# Altium footprint library memory.PCBLIB: 26 footprints (part 1 of 2)
Each footprint in its own frame and in the unit in brackets; x right, y up, seen from the top. Pads: shape width x height; smd on the part's side, far side on the other; paste and mask are expansions set on the pad; w line width, h text height; cw(c..) or ccw(c..) is an arc to the next point about the centre after c.
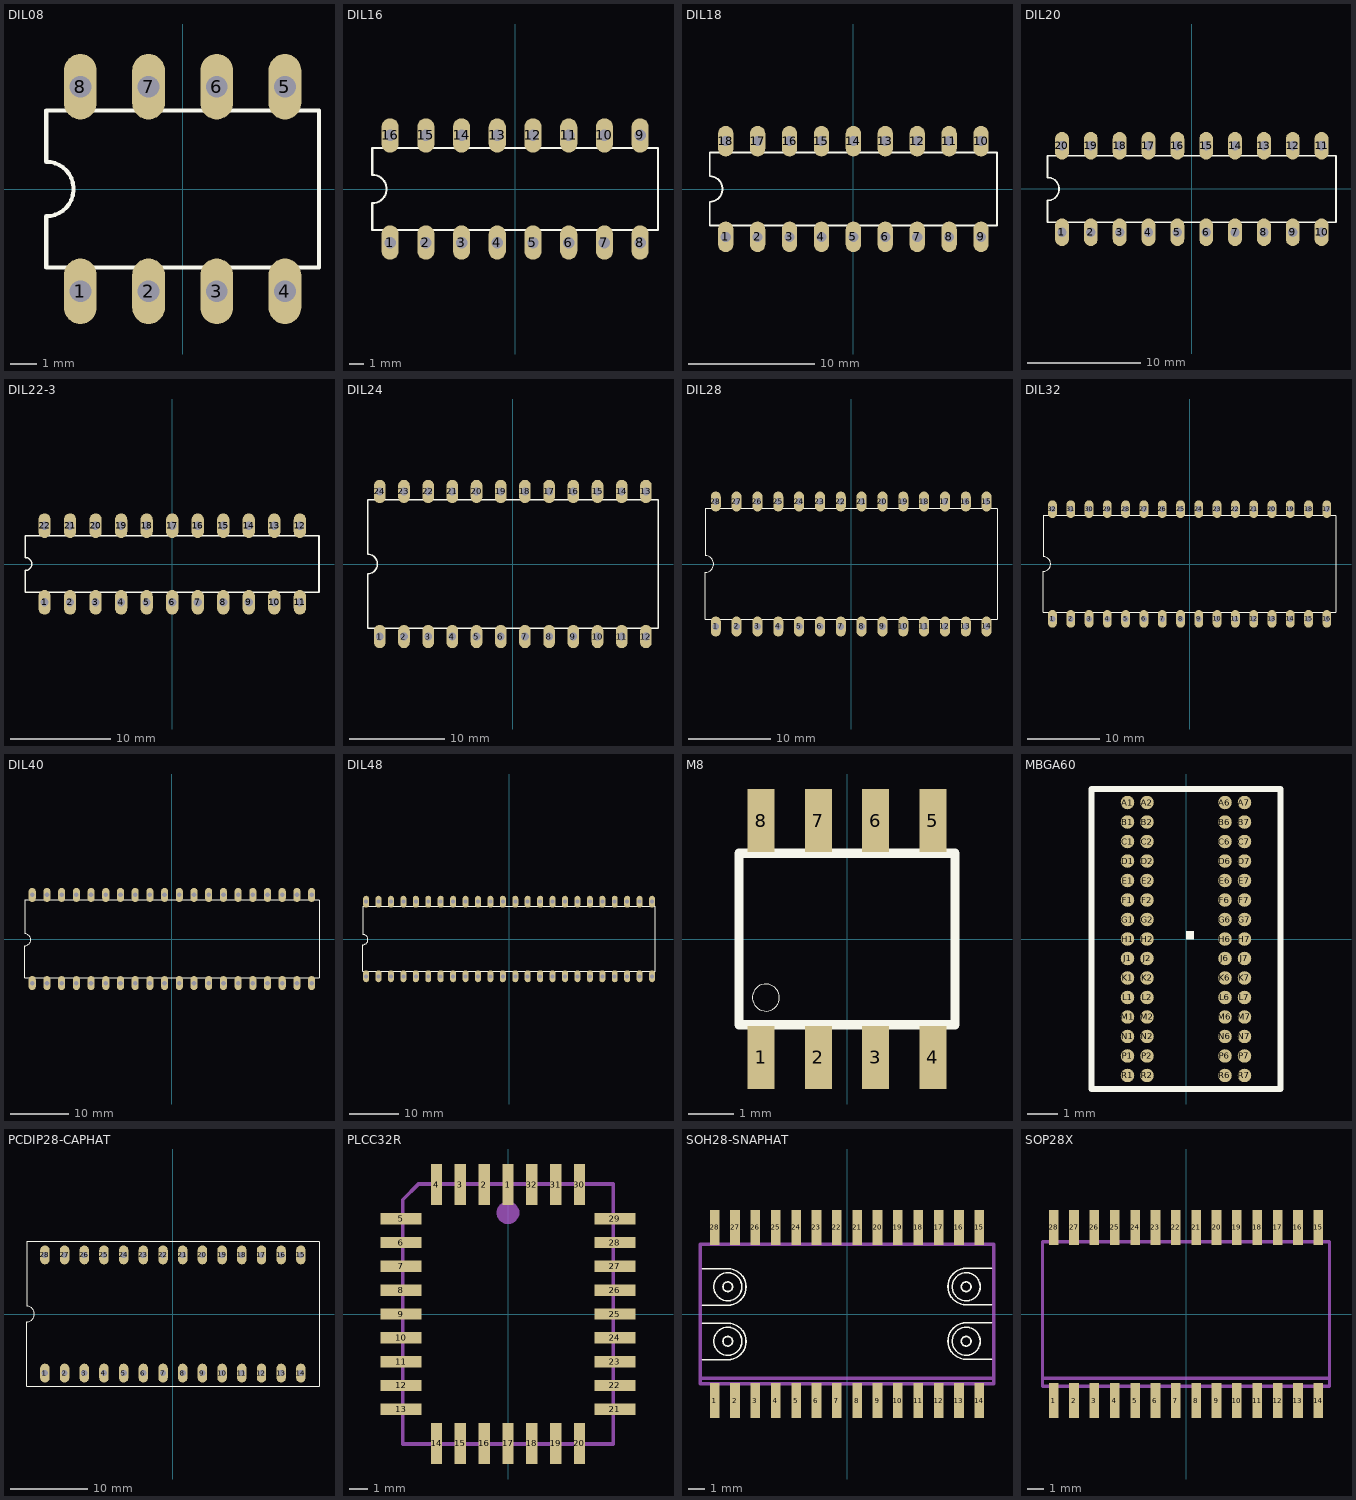
[diagram p0: the footprints below, top view; thin cyan lines are the x and y axes]

## DIL08 [mil]
pads (8):
  oval 48x96 hole 32: 1(-150,-150) 2(-50,-150) 3(50,-150) 4(150,-150) 5(150,150) 6(50,150) 7(-50,150) 8(-150,150)
Top Overlay:
  lines w6: -200,-115 200,-115 200,115 -200,115 -200,40 cw(c-200,0) -200,-40 -200,-115

## DIL16 [mil]
pads (16):
  oval 48x96 hole 32: 1(-350,-150) 2(-250,-150) 3(-150,-150) 4(-50,-150) 5(50,-150) 6(150,-150) 7(250,-150) 8(350,-150) 9(350,150) 10(250,150) 11(150,150) 12(50,150) 13(-50,150) 14(-150,150) 15(-250,150) 16(-350,150)
Top Overlay:
  lines w6: -400,-115 400,-115 400,115 -400,115 -400,40 cw(c-400,0) -400,-40 -400,-115

## DIL18 [mil]
pads (18):
  oval 48x96 hole 32: 1(-400,-150) 2(-300,-150) 3(-200,-150) 4(-100,-150) 5(0,-150) 6(100,-150) 7(200,-150) 8(300,-150) 9(400,-150) 10(400,150) 11(300,150) 12(200,150) 13(100,150) 14(0,150) 15(-100,150) 16(-200,150) 17(-300,150) 18(-400,150)
Top Overlay:
  lines w6: -450,-115 450,-115 450,115 -450,115 -450,40 cw(c-450,0) -450,-40 -450,-115

## DIL20 [mil]
pads (20):
  oval 48x96 hole 32: 1(-450,-150) 2(-350,-150) 3(-250,-150) 4(-150,-150) 5(-50,-150) 6(50,-150) 7(150,-150) 8(250,-150) 9(350,-150) 10(450,-150) 11(450,150) 12(350,150) 13(250,150) 14(150,150) 15(50,150) 16(-50,150) 17(-150,150) 18(-250,150) 19(-350,150) 20(-450,150)
Top Overlay:
  lines w6: -500,-115 500,-115 500,115 -500,115 -500,40 cw(c-500,0) -500,-40 -500,-115

## DIL22-3 [mil]
pads (22):
  oval 48x96 hole 32: 1(-500,-150) 2(-400,-150) 3(-300,-150) 4(-200,-150) 5(-100,-150) 6(0,-150) 7(100,-150) 8(200,-150) 9(300,-150) 10(400,-150) 11(500,-150) 12(500,150) 13(400,150) 14(300,150) 15(200,150) 16(100,150) 17(0,150) 18(-100,150) 19(-200,150) 20(-300,150) 21(-400,150) 22(-500,150)
Top Overlay:
  lines w6: -575,-110 -575,-25 ccw(c-575,0) -575,25 -575,110 575,110 575,-110 -575,-110

## DIL24 [mil]
pads (24):
  oval 48x96 hole 32: 1(-550,-300) 2(-450,-300) 3(-350,-300) 4(-250,-300) 5(-150,-300) 6(-50,-300) 7(50,-300) 8(150,-300) 9(250,-300) 10(350,-300) 11(450,-300) 12(550,-300) 13(550,300) 14(450,300) 15(350,300) 16(250,300) 17(150,300) 18(50,300) 19(-50,300) 20(-150,300) 21(-250,300) 22(-350,300) 23(-450,300) 24(-550,300)
Top Overlay:
  lines w6: -600,-265 -600,-40 ccw(c-600,0) -600,40 -600,265 600,265 600,-265 -600,-265

## DIL28 [mil]
pads (28):
  oval 48x96 hole 32: 1(-650,-300) 2(-550,-300) 3(-450,-300) 4(-350,-300) 5(-250,-300) 6(-150,-300) 7(-50,-300) 8(50,-300) 9(150,-300) 10(250,-300) 11(350,-300) 12(450,-300) 13(550,-300) 14(650,-300) 15(650,300) 16(550,300) 17(450,300) 18(350,300) 19(250,300) 20(150,300) 21(50,300) 22(-50,300) 23(-150,300) 24(-250,300) 25(-350,300) 26(-450,300) 27(-550,300) 28(-650,300)
Top Overlay:
  lines w6: -700,-265 700,-265 700,265 -700,265 -700,40 cw(c-700,0) -700,-40 -700,-265

## DIL32 [mil]
pads (32):
  oval 48x96 hole 32: 1(-750,-300) 2(-650,-300) 3(-550,-300) 4(-450,-300) 5(-350,-300) 6(-250,-300) 7(-150,-300) 8(-50,-300) 9(50,-300) 10(150,-300) 11(250,-300) 12(350,-300) 13(450,-300) 14(550,-300) 15(650,-300) 16(750,-300) 17(750,300) 18(650,300) 19(550,300) 20(450,300) 21(350,300) 22(250,300) 23(150,300) 24(50,300) 25(-50,300) 26(-150,300) 27(-250,300) 28(-350,300) 29(-450,300) 30(-550,300) 31(-650,300) 32(-750,300)
Top Overlay:
  lines w6: -800,-265 800,-265 800,265 -800,265 -800,40 cw(c-800,0) -800,-40 -800,-265

## DIL40 [mil]
pads (40):
  oval 48x96 hole 32: 1(-950,-300) 2(-850,-300) 3(-750,-300) 4(-650,-300) 5(-550,-300) 6(-450,-300) 7(-350,-300) 8(-250,-300) 9(-150,-300) 10(-50,-300) 11(50,-300) 12(150,-300) 13(250,-300) 14(350,-300) 15(450,-300) 16(550,-300) 17(650,-300) 18(750,-300) 19(850,-300) 20(950,-300) 21(950,300) 22(850,300) 23(750,300) 24(650,300) 25(550,300) 26(450,300) 27(350,300) 28(250,300) 29(150,300) 30(50,300) 31(-50,300) 32(-150,300) 33(-250,300) 34(-350,300) 35(-450,300) 36(-550,300) 37(-650,300) 38(-750,300) 39(-850,300) 40(-950,300)
Top Overlay:
  lines w6: -1000,-265 1000,-265 1000,265 -1000,265 -1000,35 cw(c-1000,-5) -1000,-45 -1000,-265

## DIL48 [mil]
pads (48):
  oval 48x96 hole 32: 1(-1150,-300) 2(-1050,-300) 3(-950,-300) 4(-850,-300) 5(-750,-300) 6(-650,-300) 7(-550,-300) 8(-450,-300) 9(-350,-300) 10(-250,-300) 11(-150,-300) 12(-50,-300) 13(50,-300) 14(150,-300) 15(250,-300) 16(350,-300) 17(450,-300) 18(550,-300) 19(650,-300) 20(750,-300) 21(850,-300) 22(950,-300) 23(1050,-300) 24(1150,-300) 25(1150,300) 26(1050,300) 27(950,300) 28(850,300) 29(750,300) 30(650,300) 31(550,300) 32(450,300) 33(350,300) 34(250,300) 35(150,300) 36(50,300) 37(-50,300) 38(-150,300) 39(-250,300) 40(-350,300) 41(-450,300) 42(-550,300) 43(-650,300) 44(-750,300) 45(-850,300) 46(-950,300) 47(-1050,300) 48(-1150,300)
Top Overlay:
  lines w6: -1175,-260 1175,-260 1175,260 -1175,260 -1175,35 cw(c-1175,-5) -1175,-45 -1175,-260

## M8 [mil]
pads (8):
  rect 23.62x55.12 smd: 1(-75,-103.54) 2(-25,-103.54) 3(25,-103.54) 4(75,-103.54) 5(75,103.54) 6(25,103.54) 7(-25,103.54) 8(-75,103.54)
Top Overlay:
  circle w0: c-70.87,-51.18 r11.81
  lines w8: -94.49,-75 94.49,-75 94.49,75 -94.49,75 -94.49,-75
Mechanical 13:
  text "SO8 Medium" at -75,-50 h18.6
  text "Microchip" at -75,-25 h18.6
Mechanical 16:
  rectangle: -84.65,-122.05 -65.35,-78.74
  rectangle: -34.65,-122.05 -15.35,-78.74
  rectangle: 15.35,-122.05 34.65,-78.74
  rectangle: 65.35,-122.05 84.65,-78.74
  rectangle: 65.35,78.74 84.65,122.05
  rectangle: 15.35,78.74 34.65,122.05
  rectangle: -34.65,78.74 -15.35,122.05
  rectangle: -84.65,78.74 -65.35,122.05

## MBGA60 [mm]
pads (60):
  rrect100% 0.45x0.45 smd: A1(-1.95,4.55) A2(-1.3,4.55) A6(1.3,4.55) A7(1.95,4.55) B1(-1.95,3.9) B2(-1.3,3.9) B6(1.3,3.9) B7(1.95,3.9) C1(-1.95,3.25) C2(-1.3,3.25) C6(1.3,3.25) C7(1.95,3.25) D1(-1.95,2.6) D2(-1.3,2.6) D6(1.3,2.6) D7(1.95,2.6) E1(-1.95,1.95) E2(-1.3,1.95) E6(1.3,1.95) E7(1.95,1.95) F1(-1.95,1.3) F2(-1.3,1.3) F6(1.3,1.3) F7(1.95,1.3) G1(-1.95,0.65) G2(-1.3,0.65) G6(1.3,0.65) G7(1.95,0.65) H1(-1.95,0) H2(-1.3,0) H6(1.3,0) H7(1.95,0) J1(-1.95,-0.65) J2(-1.3,-0.65) J6(1.3,-0.65) J7(1.95,-0.65) K1(-1.95,-1.3) K2(-1.3,-1.3) K6(1.3,-1.3) K7(1.95,-1.3) L1(-1.95,-1.95) L2(-1.3,-1.95) L6(1.3,-1.95) L7(1.95,-1.95) M1(-1.95,-2.6) M2(-1.3,-2.6) M6(1.3,-2.6) M7(1.95,-2.6) N1(-1.95,-3.25) N2(-1.3,-3.25) N6(1.3,-3.25) N7(1.95,-3.25) P1(-1.95,-3.9) P2(-1.3,-3.9) P6(1.3,-3.9) P7(1.95,-3.9) R1(-1.95,-4.55) R2(-1.3,-4.55) R6(1.3,-4.55) R7(1.95,-4.55)
Top Overlay:
  region: 0,0 0.254,0 0.254,0.254 0,0.254
  lines w0.203: -3.15,-5 3.15,-5 3.15,5 -3.15,5 -3.15,-5
Top Solder:
  circle w0: c-1.95,4.55 r0.2
  circle w0: c-1.95,3.9 r0.2
  circle w0: c-1.95,3.25 r0.2
  circle w0: c-1.95,2.6 r0.2
  circle w0: c-1.95,1.95 r0.2
  circle w0: c-1.95,1.3 r0.2
  circle w0: c-1.95,0.65 r0.2
  circle w0: c-1.95,0 r0.2
  circle w0: c-1.95,-0.65 r0.2
  circle w0: c-1.95,-1.3 r0.2
  circle w0: c-1.95,-1.95 r0.2
  circle w0: c-1.95,-2.6 r0.2
  circle w0: c-1.95,-3.25 r0.2
  circle w0: c-1.95,-3.9 r0.2
  circle w0: c-1.95,-4.55 r0.2
  circle w0: c-1.3,4.55 r0.2
  circle w0: c-1.3,3.9 r0.2
  circle w0: c-1.3,3.25 r0.2
  circle w0: c-1.3,2.6 r0.2
  circle w0: c-1.3,1.95 r0.2
  circle w0: c-1.3,1.3 r0.2
  circle w0: c-1.3,0.65 r0.2
  circle w0: c-1.3,0 r0.2
  circle w0: c-1.3,-0.65 r0.2
  circle w0: c-1.3,-1.3 r0.2
  circle w0: c-1.3,-1.95 r0.2
  circle w0: c-1.3,-2.6 r0.2
  circle w0: c-1.3,-3.25 r0.2
  circle w0: c-1.3,-3.9 r0.2
  circle w0: c-1.3,-4.55 r0.2
  circle w0: c1.3,4.55 r0.2
  circle w0: c1.3,3.9 r0.2
  circle w0: c1.3,3.25 r0.2
  circle w0: c1.3,2.6 r0.2
  circle w0: c1.3,1.95 r0.2
  circle w0: c1.3,1.3 r0.2
  circle w0: c1.3,0.65 r0.2
  circle w0: c1.3,0 r0.2
  circle w0: c1.3,-0.65 r0.2
  circle w0: c1.3,-1.3 r0.2
  circle w0: c1.3,-1.95 r0.2
  circle w0: c1.3,-2.6 r0.2
  circle w0: c1.3,-3.25 r0.2
  circle w0: c1.3,-3.9 r0.2
  circle w0: c1.3,-4.55 r0.2
  circle w0: c1.95,4.55 r0.2
  circle w0: c1.95,3.9 r0.2
  circle w0: c1.95,3.25 r0.2
  circle w0: c1.95,2.6 r0.2
  circle w0: c1.95,1.95 r0.2
  circle w0: c1.95,1.3 r0.2
  circle w0: c1.95,0.65 r0.2
  circle w0: c1.95,0 r0.2
  circle w0: c1.95,-0.65 r0.2
  circle w0: c1.95,-1.3 r0.2
  circle w0: c1.95,-1.95 r0.2
  circle w0: c1.95,-2.6 r0.2
  circle w0: c1.95,-3.25 r0.2
  circle w0: c1.95,-3.9 r0.2
  circle w0: c1.95,-4.55 r0.2

## PCDIP28-CAPHAT [mil]
pads (28):
  oval 48x96 hole 32: 1(-650,-300) 2(-550,-300) 3(-450,-300) 4(-350,-300) 5(-250,-300) 6(-150,-300) 7(-50,-300) 8(50,-300) 9(150,-300) 10(250,-300) 11(350,-300) 12(450,-300) 13(550,-300) 14(650,-300) 15(650,300) 16(550,300) 17(450,300) 18(350,300) 19(250,300) 20(150,300) 21(50,300) 22(-50,300) 23(-150,300) 24(-250,300) 25(-350,300) 26(-450,300) 27(-550,300) 28(-650,300)
Top Overlay:
  lines w6: -742.13,-367.13 742.13,-367.13 742.13,367.13 -742.13,367.13 -742.13,39.37 cw(c-742.13,0) -742.13,-39.37 -742.13,-367.13

## PLCC32R [mm]
pads (32):
  rect 0.6x2.2 smd: 1(0,6.9) 2(-1.27,6.9) 3(-2.54,6.9) 4(-3.81,6.9) 14(-3.81,-6.9) 15(-2.54,-6.9) 16(-1.27,-6.9) 17(0,-6.9) 18(1.27,-6.9) 19(2.54,-6.9) 20(3.81,-6.9) 30(3.81,6.9) 31(2.54,6.9) 32(1.27,6.9)
  rect 2.2x0.6 smd: 5(-5.7,5.08) 6(-5.7,3.81) 7(-5.7,2.54) 8(-5.7,1.27) 9(-5.7,0) 10(-5.7,-1.27) 11(-5.7,-2.54) 12(-5.7,-3.81) 13(-5.7,-5.08) 21(5.7,-5.08) 22(5.7,-3.81) 23(5.7,-2.54) 24(5.7,-1.27) 25(5.7,0) 26(5.7,1.27) 27(5.7,2.54) 28(5.7,3.81) 29(5.7,5.08)
Mechanical 16:
  circle w0.61: c0,5.4 r0.3
  rectangle: -0.26,6.95 0.27,7.53
  rectangle: -1.53,6.95 -1,7.53
  rectangle: -2.8,6.95 -2.27,7.53
  rectangle: -4.07,6.95 -3.54,7.53
  rectangle: -6.33,4.82 -5.75,5.35
  rectangle: -6.33,3.55 -5.75,4.08
  rectangle: -6.33,2.28 -5.75,2.81
  rectangle: -6.33,1.01 -5.75,1.54
  rectangle: -6.33,-0.26 -5.75,0.27
  rectangle: -6.33,-1.53 -5.75,-1
  rectangle: -6.33,-2.8 -5.75,-2.27
  rectangle: -6.33,-4.07 -5.75,-3.54
  rectangle: -6.33,-5.34 -5.75,-4.81
  rectangle: -4.08,-7.53 -3.55,-6.95
  rectangle: -2.81,-7.53 -2.28,-6.95
  rectangle: -1.54,-7.53 -1.01,-6.95
  rectangle: -0.27,-7.53 0.26,-6.95
  rectangle: 1,-7.53 1.53,-6.95
  rectangle: 2.27,-7.53 2.8,-6.95
  rectangle: 3.54,-7.53 4.07,-6.95
  rectangle: 5.75,-5.35 6.33,-4.82
  rectangle: 5.75,-4.08 6.33,-3.55
  rectangle: 5.75,-2.81 6.33,-2.28
  rectangle: 5.75,-1.54 6.33,-1.01
  rectangle: 5.75,-0.27 6.33,0.26
  rectangle: 5.75,1 6.33,1.53
  rectangle: 5.75,2.27 6.33,2.8
  rectangle: 5.75,3.54 6.33,4.07
  rectangle: 5.75,4.81 6.33,5.34
  rectangle: 3.55,6.95 4.08,7.53
  rectangle: 2.28,6.95 2.81,7.53
  rectangle: 1.01,6.95 1.54,7.53
  lines w0.203: -5.61,-6.93 5.61,-6.93 5.61,6.93 -4.77,6.93 -5.61,6.09 -5.61,-6.93

## SOH28-SNAPHAT [mil]
pads (28):
  rect 23.62x86.61 smd: 1(-325,-212.6) 2(-275,-212.6) 3(-225,-212.6) 4(-175,-212.6) 5(-125,-212.6) 6(-75,-212.6) 7(-25,-212.6) 8(25,-212.6) 9(75,-212.6) 10(125,-212.6) 11(175,-212.6) 12(225,-212.6) 13(275,-212.6) 14(325,-212.6) 15(325,212.6) 16(275,212.6) 17(225,212.6) 18(175,212.6) 19(125,212.6) 20(75,212.6) 21(25,212.6) 22(-25,212.6) 23(-75,212.6) 24(-125,212.6) 25(-175,212.6) 26(-225,212.6) 27(-275,212.6) 28(-325,212.6)
Top Overlay:
  circle w4: c-292.72,-66.93 r34.45
  circle w4: c-292.72,66.93 r34.45
  circle w4: c-292.72,66.93 r11.85
  circle w4: c-292.72,-66.93 r11.85
  circle w4: c292.72,66.93 r34.45
  circle w4: c292.72,-66.93 r34.45
  circle w4: c292.72,-66.93 r11.85
  circle w4: c292.72,66.93 r11.85
  lines w4: -355.32,-112.2 -292.72,-112.2 ccw(c-292.72,-67.42) -292.72,-22.64 -355.32,-22.64 ; -355.32,21.65 -292.72,21.65 ccw(c-292.72,66.44) -292.72,111.22 -355.32,111.22 ; 355.32,-111.22 292.72,-111.22 cw(c292.72,-66.44) 292.72,-21.65 355.32,-21.65 ; 355.32,22.64 292.72,22.64 cw(c292.72,67.42) 292.72,112.2 355.32,112.2
Mechanical 16:
  rectangle: -334.65,-249.8 -315.35,-173.23
  rectangle: -284.65,-249.8 -265.35,-173.23
  rectangle: -234.65,-249.8 -215.35,-173.23
  rectangle: -184.65,-249.8 -165.35,-173.23
  rectangle: -134.65,-249.8 -115.35,-173.23
  rectangle: -84.65,-249.8 -65.35,-173.23
  rectangle: -34.65,-249.8 -15.35,-173.23
  rectangle: 15.35,-249.8 34.65,-173.23
  rectangle: 65.35,-249.8 84.65,-173.23
  rectangle: 115.35,-249.8 134.65,-173.23
  rectangle: 165.35,-249.8 184.65,-173.23
  rectangle: 215.35,-249.8 234.65,-173.23
  rectangle: 265.35,-249.8 284.65,-173.23
  rectangle: 315.35,-249.8 334.65,-173.23
  region: 334.65,249.8 315.35,249.8 315.35,173.23 334.65,173.23
  region: 284.65,249.8 265.35,249.8 265.35,173.23 284.65,173.23
  region: 234.65,249.8 215.35,249.8 215.35,173.23 234.65,173.23
  region: 184.65,249.8 165.35,249.8 165.35,173.23 184.65,173.23
  region: 134.65,249.8 115.35,249.8 115.35,173.23 134.65,173.23
  region: 84.65,249.8 65.35,249.8 65.35,173.23 84.65,173.23
  region: 34.65,249.8 15.35,249.8 15.35,173.23 34.65,173.23
  region: -15.35,249.8 -34.65,249.8 -34.65,173.23 -15.35,173.23
  region: -65.35,249.8 -84.65,249.8 -84.65,173.23 -65.35,173.23
  region: -115.35,249.8 -134.65,249.8 -134.65,173.23 -115.35,173.23
  region: -165.35,249.8 -184.65,249.8 -184.65,173.23 -165.35,173.23
  region: -215.35,249.8 -234.65,249.8 -234.65,173.23 -215.35,173.23
  region: -265.35,249.8 -284.65,249.8 -284.65,173.23 -265.35,173.23
  region: -315.35,249.8 -334.65,249.8 -334.65,173.23 -315.35,173.23
  lines w8: -360.24,-157.48 -360.24,-171.26 360.24,-171.26 360.24,-157.48 ; -360.24,-157.48 -360.24,171.26 360.24,171.26 360.24,-157.48 ; -360.24,-157.48 360.24,-157.48

## SOP28X [mil]
pads (28):
  rect 23.62x86.61 smd: 1(-325,-212.6) 2(-275,-212.6) 3(-225,-212.6) 4(-175,-212.6) 5(-125,-212.6) 6(-75,-212.6) 7(-25,-212.6) 8(25,-212.6) 9(75,-212.6) 10(125,-212.6) 11(175,-212.6) 12(225,-212.6) 13(275,-212.6) 14(325,-212.6) 15(325,212.6) 16(275,212.6) 17(225,212.6) 18(175,212.6) 19(125,212.6) 20(75,212.6) 21(25,212.6) 22(-25,212.6) 23(-75,212.6) 24(-125,212.6) 25(-175,212.6) 26(-225,212.6) 27(-275,212.6) 28(-325,212.6)
Mechanical 16:
  rectangle: -334.65,-240.94 -315.35,-181.1
  rectangle: -284.65,-240.94 -265.35,-181.1
  rectangle: -234.65,-240.94 -215.35,-181.1
  rectangle: -184.65,-240.94 -165.35,-181.1
  rectangle: -134.65,-240.94 -115.35,-181.1
  rectangle: -84.65,-240.94 -65.35,-181.1
  rectangle: -34.65,-240.94 -15.35,-181.1
  rectangle: 15.35,-240.94 34.65,-181.1
  rectangle: 65.35,-240.94 84.65,-181.1
  rectangle: 115.35,-240.94 134.65,-181.1
  rectangle: 165.35,-240.94 184.65,-181.1
  rectangle: 215.35,-240.94 234.65,-181.1
  rectangle: 265.35,-240.94 284.65,-181.1
  rectangle: 315.35,-240.94 334.65,-181.1
  rectangle: 315.35,181.1 334.65,240.94
  rectangle: 265.35,181.1 284.65,240.94
  rectangle: 215.35,181.1 234.65,240.94
  rectangle: 165.35,181.1 184.65,240.94
  rectangle: 115.35,181.1 134.65,240.94
  rectangle: 65.35,181.1 84.65,240.94
  rectangle: 15.35,181.1 34.65,240.94
  rectangle: -34.65,181.1 -15.35,240.94
  rectangle: -84.65,181.1 -65.35,240.94
  rectangle: -134.65,181.1 -115.35,240.94
  rectangle: -184.65,181.1 -165.35,240.94
  rectangle: -234.65,181.1 -215.35,240.94
  rectangle: -284.65,181.1 -265.35,240.94
  rectangle: -334.65,181.1 -315.35,240.94
  lines w8: -352.36,-157.48 -352.36,-177.17 352.36,-177.17 352.36,-157.48 ; -352.36,-157.48 -352.36,177.17 352.36,177.17 352.36,-157.48 ; -352.36,-157.48 352.36,-157.48